# Altium footprint library PCB - LEADED - TO252-3 - DPACK.PCBLIB: 1 footprints
Each footprint in its own frame and in the unit in brackets; x right, y up, seen from the top. Pads: shape width x height; smd on the part's side, far side on the other; paste and mask are expansions set on the pad; w line width, h text height; cw(c..) or ccw(c..) is an arc to the next point about the centre after c.
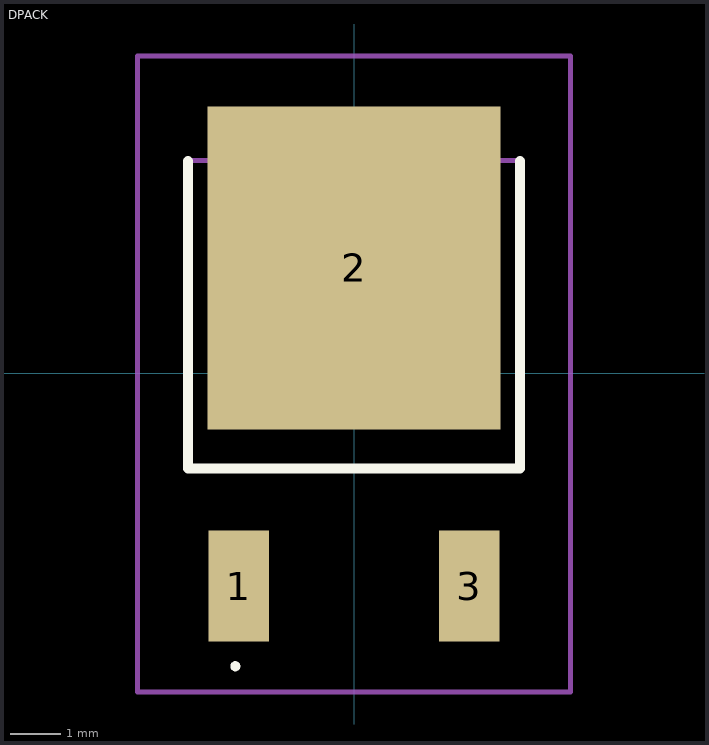
[diagram p0: the footprint, top view; thin cyan lines are the x and y axes]

## DPACK [mm]
pads (3):
  rect 1.2x2.2 smd: 1(-2.28,-4.213) 3(2.28,-4.213)
  rect 5.8x6.4 smd: 2(0,2.087)
Top Overlay:
  lines w0.1: -2.4,-5.8 ccw(c-2.35,-5.8) -2.3,-5.8 ccw(c-2.35,-5.8) -2.4,-5.8
  lines w0.2: -3.283,4.2 -3.283,-1.888 3.283,-1.888 3.283,4.2
Top Value (Mech13):
  lines w0.1: -3.283,-1.888 3.283,-1.888 3.283,4.212 -3.283,4.212 -3.283,-1.888
Mechanical 15:
  lines w0.1: -4.283,-6.313 4.283,-6.313 4.283,6.287 -4.283,6.287 -4.283,-6.313
3D body "TO252 Gehäuse.step": height 2.3, standoff -0.05, extent -3.25,-4.445 3.25,4.255